# Altium schematic symbol library beacon_pcb.SchLib: 5 symbols
Pins are listed as number, name and electrical type; pins without a type are passive.

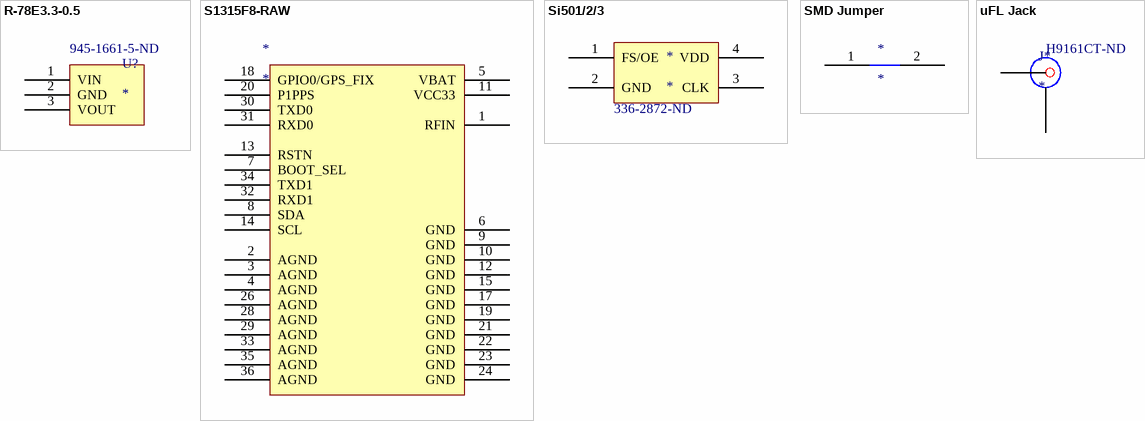
[diagram p0: symbols R-78E3.3-0.5 to uFL Jack]

## R-78E3.3-0.5
designator U?  Supplier Part Number 1: 945-1661-5-ND
Supplier 1: Digi-Key
footprint R-78E3.3-0.5
pins: 1 VIN, 2 GND, 3 VOUT

## S1315F8-RAW
designator *
footprint S1315F8-RAW
pins: 1 RFIN, 2 AGND, 3 AGND, 4 AGND, 5 VBAT, 6 GND, 7 BOOT_SEL, 8 SDA, 9 GND, 10 GND, 11 VCC33, 12 GND, 13 RSTN, 14 SCL, 15 GND, 17 GND, 18 GPIO0/GPS_FIX, 19 GND, 20 P1PPS, 21 GND, 22 GND, 23 GND, 24 GND, 26 AGND, 28 AGND, 29 AGND, 30 TXD0, 31 RXD0, 32 RXD1, 33 AGND, 34 TXD1, 35 AGND, 36 AGND

## Si501/2/3
designator *  Supplier Part Number 1: 336-2872-ND
Supplier 1: Digi-Key
footprint 3.2 x 5 mm 4-pin DFN (Footprint for Si501 Oscillator)
pins: 1 FS/OE, 2 GND, 3 CLK, 4 VDD

## SMD Jumper
designator *
footprint SMD 2PAD
pins: 1, 2

## uFL Jack
designator J*  Supplier Part Number 1: H9161CT-ND
Supplier 1: Digi-Key
footprint H9161CT-ND
pins: GND, SIG